# Altium footprint library 6-SIP.PcbLib: 1 footprints
Each footprint in its own frame and in the unit in brackets; x right, y up, seen from the top. Pads: shape width x height; smd on the part's side, far side on the other; paste and mask are expansions set on the pad; w line width, h text height; cw(c..) or ccw(c..) is an arc to the next point about the centre after c.
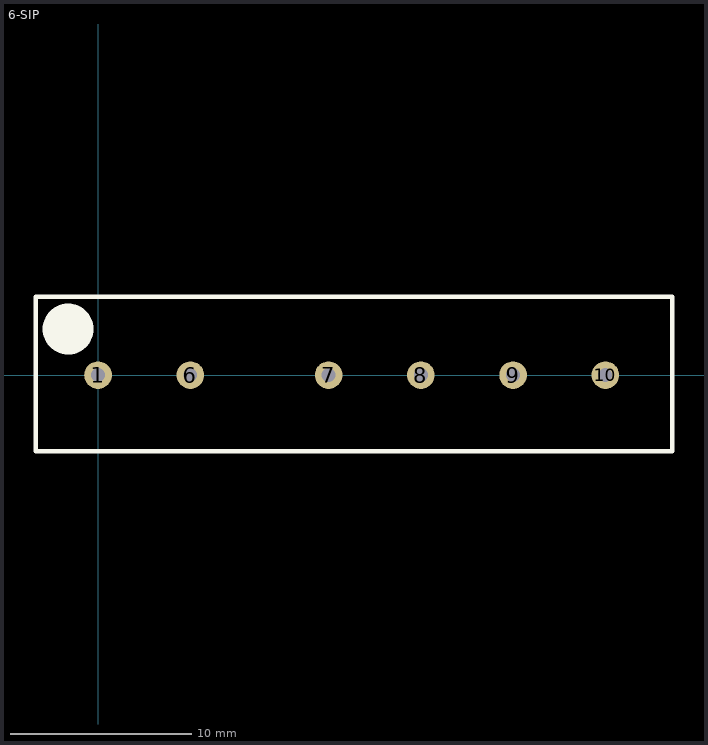
[diagram p0: the footprint, top view; thin cyan lines are the x and y axes]

## 6-SIP [mil]
pads (6):
  round 60 hole 30: 1(0,0) 6(200,0) 7(500,0) 8(700,0) 9(900,0) 10(1100,0)
Top Overlay:
  circle w78.74: c-65,100 r15.75
  lines w10: -135,-165 -135,170 1245,170 1245,-165 -135,-165